# Altium footprint library SOT.PcbLib: 3 footprints
Each footprint in its own frame and in the unit in brackets; x right, y up, seen from the top. Pads: shape width x height; smd on the part's side, far side on the other; paste and mask are expansions set on the pad; w line width, h text height; cw(c..) or ccw(c..) is an arc to the next point about the centre after c.
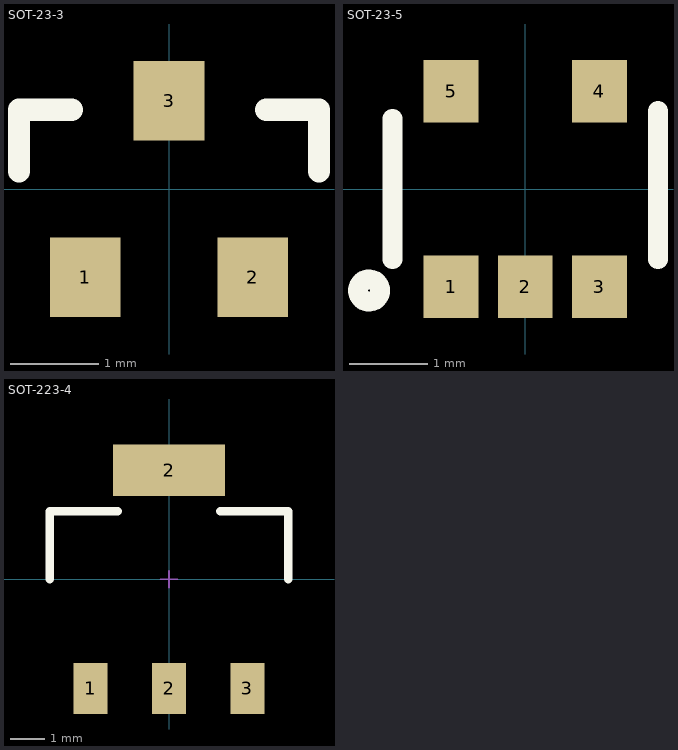
[diagram p0: the footprints below, top view; thin cyan lines are the x and y axes]

## SOT-23-3 [mm]
pads (3):
  rect 0.8x0.9 smd: 1(-0.95,-1) 2(0.95,-1) 3(0,1)
Top Overlay:
  lines w0.254: -1.7,0.2 -1.7,0.9 -1.1,0.9 ; 1.1,0.9 1.7,0.9 1.7,0.2
3D body "CircuitWorks-SOT-23.step": height 1.1, standoff 0, extent -1.5,-1.25 1.5,1.25

## SOT-23-5 [mm]
pads (5):
  rect 0.7x0.8 smd: 1(-0.95,-1.25) 2(0,-1.25) 3(0.95,-1.25) 4(0.95,1.25) 5(-0.95,1.25)
Top Overlay:
  circle w0.254: c-2,-1.3 r0.141
  lines w0.254: -1.7,-0.9 -1.7,0.9 ; 1.7,-0.9 1.7,1
3D body "User Library-SOT23-5-1.step": height 1.3, standoff 0, extent -1.5,-1.5 1.5,1.5

## SOT-223-4 [mm]
pads (4):
  rect 1x1.5 smd: 1(-2.3,-3.2) 2(0,-3.2) 3(2.3,-3.2)
  rect 3.3x1.5 smd: 2(0,3.2)
Top Overlay:
  lines w0.254: -3.5,0 -3.5,2 -1.5,2 ; 1.5,2 3.5,2 3.5,0
Mechanical 15:
  lines w0.05: -0.25,0 0.25,0 ; 0,-0.25 0,0.25
3D body "SOT-223-4.stp": height 1.65, standoff 0, extent -3.25,-3.543 3.25,3.543